# Altium integrated library AD RF and IF Mixer.IntLib: 1 symbol
Pins are listed as number, name and electrical type; pins without a type are passive.

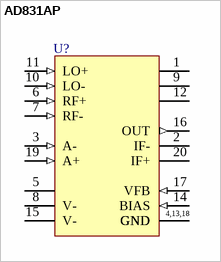
[diagram p0: symbol AD831AP]

## AD831AP
designator U?
Low Distortion Mixer; Published: 8-Jun-2000; LatestRevisionDate: 13-Apr-2006; LatestRevisionNote: IPC-7351 Footprint Added.; DatasheetVersion: Rev.B 1995; PackageVersion: revB, 1995; PackageReference: P-20A; Publisher: Altium Limited; PackageDescription: 20-Pin Leaded Chip Carrier 1.27 mm Pitch; Code_IPC: PLCC-20; ComponentLink1Description: Manufacturer Link; ComponentLink1URL: http://www.analog.com/en/prod/0%2C2877%2CAD831%2C00.html; ComponentLink2Description: Datasheet; ComponentLink2URL: http://www.analog.com/UploadedFiles/Data_Sheets/36203455769223AD831_c.pdf
footprint P-20A_N (Leaded Chip Carrier, 20-Leads, Body 9x9mm, Pitch 1.27mm, IPC Medium Density)
footprint P-20A_L (Leaded Chip Carrier, 20-Leads, Body 9x9mm, Pitch 1.27mm, IPC High Density)
footprint P-20A_M (Leaded Chip Carrier, 20-Leads, Body 9x9mm, Pitch 1.27mm, IPC Low Density)
3D model 831-P20A (20-Pin Leaded Chip Carrier 1.27 mm Pitch)
pins: 1 V+ (power), 2 IF- (oc), 3 A- (in), 4 GND (power), 5 V- (power), 6 RF+ (in), 7 RF- (in), 8 V-, 9 V+ (power), 10 LO- (in), 11 LO+ (in), 12 V+ (power), 13 GND (power), 14 BIAS (in), 15 V-, 16 OUT (out), 17 VFB (in), 18 GND (power), 19 A+ (in), 20 IF+ (oc)
text: 4,13,18